# EAGLE library part NE555 (library TIMERIC)
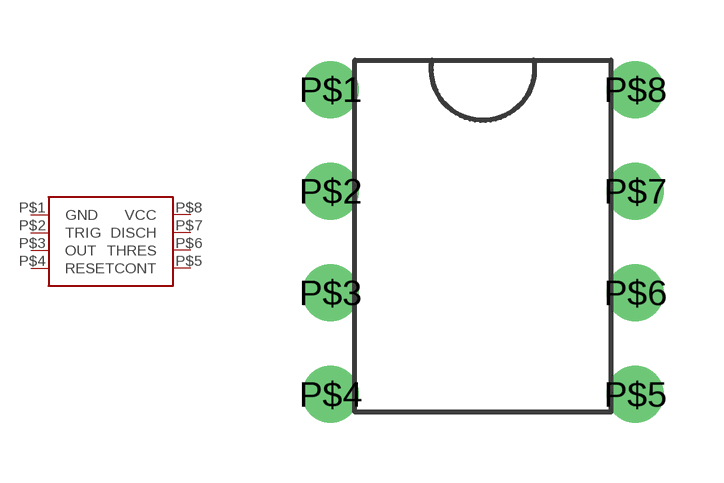
[diagram p0: symbol with the pads of DIP-8; footprint DIP-8]

Designator prefix -

## NE555  [DIP-8]
P$1  GND
P$2  TRIG
P$3  OUT
P$4  RESET
P$5  CONT
P$6  THRES
P$7  DISCH
P$8  VCC

## Footprint DIP-8 (pad centres in mm)
drill 0.6 pad 1.422: P$1 -3.81,0; P$2 -3.81,-2.54; P$3 -3.81,-5.08; P$4 -3.81,-7.62; P$5 3.81,-7.62; P$6 3.81,-5.08; P$7 3.81,-2.54; P$8 3.81,0